# Altium schematic symbol library AD8138.SchLib: 1 symbol
Pins are listed as number, name and electrical type; pins without a type are passive.

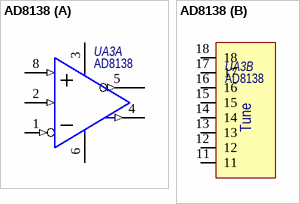
[diagram p0: symbol AD8138]

## AD8138
designator UA3
Low Distortion, Differential ADC Driver; Потребление, Вт: 0,07; ComponentLink1Description: datasheet; ComponentLink1URL: https://static.chipdip.ru/lib/475/DOC012475068.pdf; Назначение: Low Distortion, Differential ADC Driver; Наименование: AD8138
footprint MSOP-8
footprint MSOP-8_INV
footprint MSOP-8_INV_Double
part A pins: 1 -IN (in), 2 VOCM (in), 3 V+ (power), 4 +OUT (out), 5 -OUT (out), 6 V- (power), 8 +IN (in)
part B pins: 11, 12, 13, 14, 15, 16, 17, 18
part B text: Tune